# Altium schematic symbol library SP3003-02.Schlib: 1 symbol
Pins are listed as number, name and electrical type; pins without a type are passive.

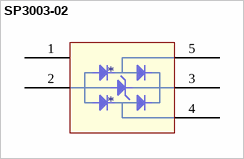
[diagram p0: symbol SP3003-02]

## SP3003-02
designator *
pins: 1, 2, 3, 4, 5